# EAGLE library part JS1300 (library RoboJackets-Switches)
https://www.e-switch.com/system/asset/product_line/data_sheet/21/JS1300.pdf
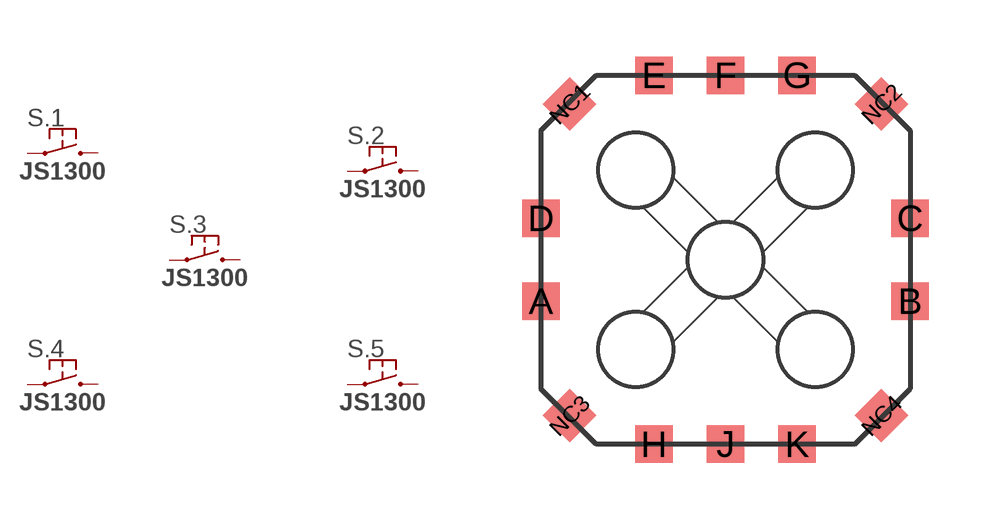
[diagram p1: symbol with the pads of JS1300; footprint JS1300]

Designator prefix S; gates .3=TS2 .1=TS2 .4=TS2 .5=TS2 .2=TS2

## JS1300  [JS1300]
A  .4:1  pas
B  .5:1  pas
C  .2:1  pas
D  .1:1  pas
E  .1:2  pas
F  .3:1  pas
G  .2:2  pas
H  .4:2  pas
J  .3:2  pas
K  .5:2  pas

## Footprint JS1300 (pad centres in mm)
smd 1 x 1: A -4.9,-1.1; B 4.9,-1.1; C 4.9,1.1; D -4.9,1.1; E -1.9,4.9; F 0,4.9; G 1.9,4.9; H -1.9,-4.9; J 0,-4.9; K 1.9,-4.9
smd 1 x 1 rotated 45: NC1 -4.14,4.14; NC2 4.14,4.14; NC3 -4.14,-4.14; NC4 4.14,-4.14